# Altium footprint library SMT1206.PcbLib: 3 footprints
Each footprint in its own frame and in the unit in brackets; x right, y up, seen from the top. Pads: shape width x height; smd on the part's side, far side on the other; paste and mask are expansions set on the pad; w line width, h text height; cw(c..) or ccw(c..) is an arc to the next point about the centre after c.
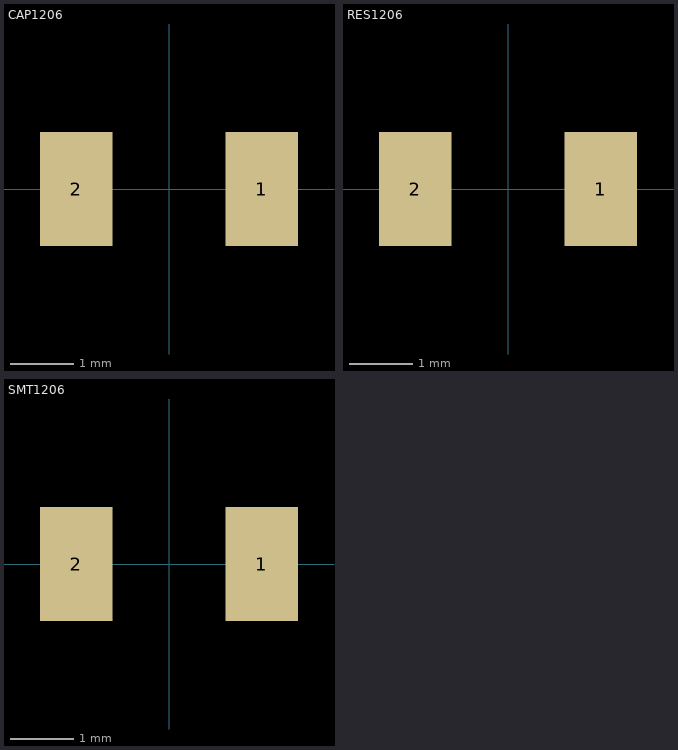
[diagram p0: the footprints below, top view; thin cyan lines are the x and y axes]

## CAP1206 [mm]
height 2.5
pads (2):
  rect 1.16x1.82 smd: 1(1.475,0) 2(-1.475,0)
3D body "CAP-1206.step": height 0.57, standoff 0, extent -1.6,-0.81 1.6,0.81

## RES1206 [mm]
height 2.5
pads (2):
  rect 1.16x1.82 smd: 1(1.475,0) 2(-1.475,0)
3D body "RES-1206.step": height 0.55, standoff 0, extent -1.55,-0.8 1.55,0.8

## SMT1206 [mm] "GENERIC 1206 SMD"
height 2.5
pads (2):
  rect 1.16x1.82 smd: 1(1.475,0) 2(-1.475,0)
3D body: height 1, standoff 0, extent -1.55,-0.8 1.55,0.8